# Altium footprint library AltiumDesigner.PcbLib: 3 footprints
Each footprint in its own frame and in the unit in brackets; x right, y up, seen from the top. Pads: shape width x height; smd on the part's side, far side on the other; paste and mask are expansions set on the pad; w line width, h text height; cw(c..) or ccw(c..) is an arc to the next point about the centre after c.
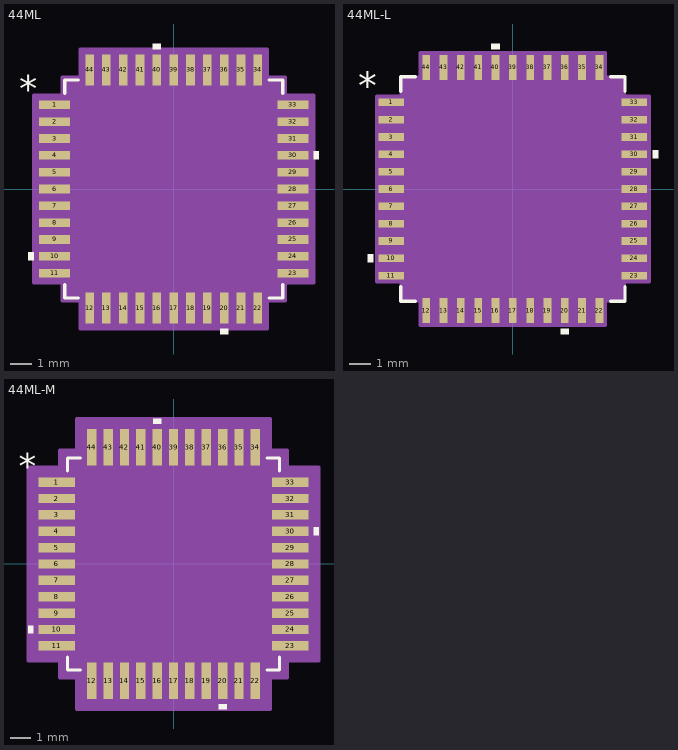
[diagram p0: the footprints below, top view; thin cyan lines are the x and y axes]

## 44ML [mil]
pads (44):
  rect 58x16 smd paste+0 mask+0: 1(-223,157.48) 2(-223,125.98) 3(-223,94.49) 4(-223,62.99) 5(-223,31.5) 6(-223,0) 7(-223,-31.5) 8(-223,-62.99) 9(-223,-94.49) 10(-223,-125.98) 11(-223,-157.48) 23(223,-157.48) 24(223,-125.98) 25(223,-94.49) 26(223,-62.99) 27(223,-31.5) 28(223,0) 29(223,31.5) 30(223,62.99) 31(223,94.49) 32(223,125.98) 33(223,157.48)
  rect 16x58 smd paste+0 mask+0: 12(-157.48,-223) 13(-125.98,-223) 14(-94.49,-223) 15(-62.99,-223) 16(-31.5,-223) 17(0,-223) 18(31.5,-223) 19(62.99,-223) 20(94.49,-223) 21(125.98,-223) 22(157.48,-223) 34(157.48,223) 35(125.98,223) 36(94.49,223) 37(62.99,223) 38(31.5,223) 39(0,223) 40(-31.5,223) 41(-62.99,223) 42(-94.49,223) 43(-125.98,223) 44(-157.48,223)
Top Overlay:
  region: -262,-118.48 -272,-118.48 -272,-133.48 -262,-133.48
  region: 101.99,-262 86.99,-262 86.99,-272 101.99,-272
  region: 262,70.49 272,70.49 272,55.49 262,55.49
  region: -24,262 -39,262 -39,272 -24,272
  lines w6: -204,-178.58 -204,-204 -178.58,-204 ; -204,178.58 -204,204 -178.58,204 ; 178.58,-204 204,-204 204,-178.58 ; 178.58,204 204,204 204,178.58
  text "*" at -289.5,163.23 h50
Mechanical 13:
  drawing of 185 lines, arcs and shapes, not listed
  text "*" at -196.5,148.23 h50
Mechanical 15:
  region: -175.48,-209 -209,-209 -209,-175.48 -262,-175.48 -262,175.48 -209,175.48 -209,209 -175.48,209 -175.48,262 175.48,262 175.48,209 209,209 209,175.48 262,175.48 262,-175.48 209,-175.48 209,-209 175.48,-209 175.48,-262 -175.48,-262
  lines w6: -262,-175.48 -209,-175.48 -209,-209 -175.48,-209 -175.48,-262 175.48,-262 175.48,-209 209,-209 209,-175.48 262,-175.48 262,175.48 209,175.48 209,209 175.48,209 175.48,262 -175.48,262 -175.48,209 -209,209 -209,175.48 -262,175.48 -262,-175.48
3D body: height 10, standoff 0, extent 0,0 10,10

## 44ML-L [mil]
pads (44):
  rect 46x14 smd paste+0 mask+0: 1(-221,157.48) 2(-221,125.98) 3(-221,94.49) 4(-221,62.99) 5(-221,31.5) 6(-221,0) 7(-221,-31.5) 8(-221,-62.99) 9(-221,-94.49) 10(-221,-125.98) 11(-221,-157.48) 23(221,-157.48) 24(221,-125.98) 25(221,-94.49) 26(221,-62.99) 27(221,-31.5) 28(221,0) 29(221,31.5) 30(221,62.99) 31(221,94.49) 32(221,125.98) 33(221,157.48)
  rect 14x46 smd paste+0 mask+0: 12(-157.48,-221) 13(-125.98,-221) 14(-94.49,-221) 15(-62.99,-221) 16(-31.5,-221) 17(0,-221) 18(31.5,-221) 19(62.99,-221) 20(94.49,-221) 21(125.98,-221) 22(157.48,-221) 34(157.48,221) 35(125.98,221) 36(94.49,221) 37(62.99,221) 38(31.5,221) 39(0,221) 40(-31.5,221) 41(-62.99,221) 42(-94.49,221) 43(-125.98,221) 44(-157.48,221)
Top Overlay:
  region: -254,-118.48 -264,-118.48 -264,-133.48 -254,-133.48
  region: 101.99,-254 86.99,-254 86.99,-264 101.99,-264
  region: 254,70.49 264,70.49 264,55.49 254,55.49
  region: -24,254 -39,254 -39,264 -24,264
  lines w6: -204,-177.58 -204,-204 -177.58,-204 ; -204,177.58 -204,204 -177.58,204 ; 177.58,-204 204,-204 204,-177.58 ; 177.58,204 204,204 204,177.58
  text "*" at -281.5,163.23 h50
Mechanical 13:
  drawing of 185 lines, arcs and shapes, not listed
  text "*" at -196.5,148.23 h50
Mechanical 15:
  region: -168.48,-203 -203,-203 -203,-168.48 -248,-168.48 -248,168.48 -203,168.48 -203,203 -168.48,203 -168.48,248 168.48,248 168.48,203 203,203 203,168.48 248,168.48 248,-168.48 203,-168.48 203,-203 168.48,-203 168.48,-248 -168.48,-248
  lines w6: -248,-168.48 -203,-168.48 -203,-203 -168.48,-203 -168.48,-248 168.48,-248 168.48,-203 203,-203 203,-168.48 248,-168.48 248,168.48 203,168.48 203,203 168.48,203 168.48,248 -168.48,248 -168.48,203 -203,203 -203,168.48 -248,168.48 -248,-168.48
3D body: height 10, standoff 0, extent 0,0 10,10

## 44ML-M [mil]
pads (44):
  rect 70x18 smd paste+0 mask+0: 1(-225,157.48) 2(-225,125.98) 3(-225,94.49) 4(-225,62.99) 5(-225,31.5) 6(-225,0) 7(-225,-31.5) 8(-225,-62.99) 9(-225,-94.49) 10(-225,-125.98) 11(-225,-157.48) 23(225,-157.48) 24(225,-125.98) 25(225,-94.49) 26(225,-62.99) 27(225,-31.5) 28(225,0) 29(225,31.5) 30(225,62.99) 31(225,94.49) 32(225,125.98) 33(225,157.48)
  rect 18x70 smd paste+0 mask+0: 12(-157.48,-225) 13(-125.98,-225) 14(-94.49,-225) 15(-62.99,-225) 16(-31.5,-225) 17(0,-225) 18(31.5,-225) 19(62.99,-225) 20(94.49,-225) 21(125.98,-225) 22(157.48,-225) 34(157.48,225) 35(125.98,225) 36(94.49,225) 37(62.99,225) 38(31.5,225) 39(0,225) 40(-31.5,225) 41(-62.99,225) 42(-94.49,225) 43(-125.98,225) 44(-157.48,225)
Top Overlay:
  region: -270,-118.48 -280,-118.48 -280,-133.48 -270,-133.48
  region: 101.99,-270 86.99,-270 86.99,-280 101.99,-280
  region: 270,70.49 280,70.49 280,55.49 270,55.49
  region: -24,270 -39,270 -39,280 -24,280
  lines w6: -204,-179.58 -204,-204 -179.58,-204 ; -204,179.58 -204,204 -179.58,204 ; 179.58,-204 204,-204 204,-179.58 ; 179.58,204 204,204 204,179.58
  text "*" at -297.5,163.23 h50
Mechanical 13:
  drawing of 185 lines, arcs and shapes, not listed
  text "*" at -196.5,148.23 h50
Mechanical 15:
  region: -186.48,-219 -219,-219 -219,-186.48 -280,-186.48 -280,186.48 -219,186.48 -219,219 -186.48,219 -186.48,280 186.48,280 186.48,219 219,219 219,186.48 280,186.48 280,-186.48 219,-186.48 219,-219 186.48,-219 186.48,-280 -186.48,-280
  lines w6: -280,-186.48 -219,-186.48 -219,-219 -186.48,-219 -186.48,-280 186.48,-280 186.48,-219 219,-219 219,-186.48 280,-186.48 280,186.48 219,186.48 219,219 186.48,219 186.48,280 -186.48,280 -186.48,219 -219,219 -219,186.48 -280,186.48 -280,-186.48
3D body: height 10, standoff 0, extent 0,0 10,10